# EAGLE library part NE592_N14 (library linear)
Wzmacniacz video 50MHz
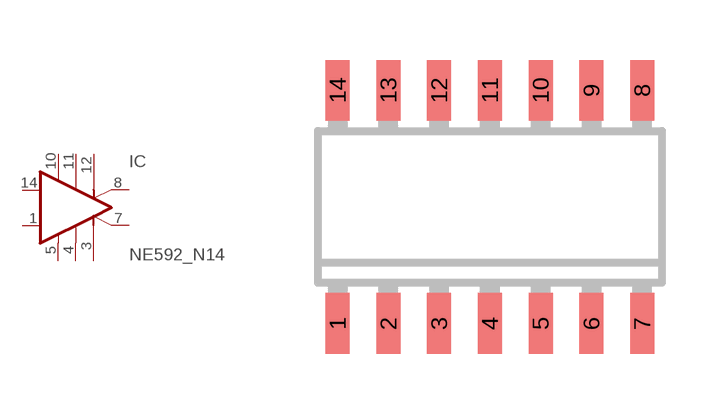
[diagram p261: symbol with the pads of SO14; footprint SO14]

Designator prefix IC

## NE592_N14  [SO14]
1  IN2  in
3  G2B  in
4  G1B  in
5  V-  pwr
7  OUT2  out
8  OUT1  out
10  V+  pwr
11  G1A  in
12  G2A  in
14  IN1  in

## Footprint SO14 (pad centres in mm)
Small Outline Package 14
smd 0.6 x 1.524: 1 -3.81,-2.935; 2 -2.54,-2.935; 3 -1.27,-2.935; 4 0,-2.935; 5 1.27,-2.935; 6 2.54,-2.935; 7 3.81,-2.935; 8 3.81,2.9; 9 2.54,2.9; 10 1.27,2.9; 11 0,2.9; 12 -1.27,2.9; 13 -2.54,2.9; 14 -3.81,2.9